# Altium footprint library Mill-Max.PcbLib: 3 footprints
Each footprint in its own frame and in the unit in brackets; x right, y up, seen from the top. Pads: shape width x height; smd on the part's side, far side on the other; paste and mask are expansions set on the pad; w line width, h text height; cw(c..) or ccw(c..) is an arc to the next point about the centre after c.
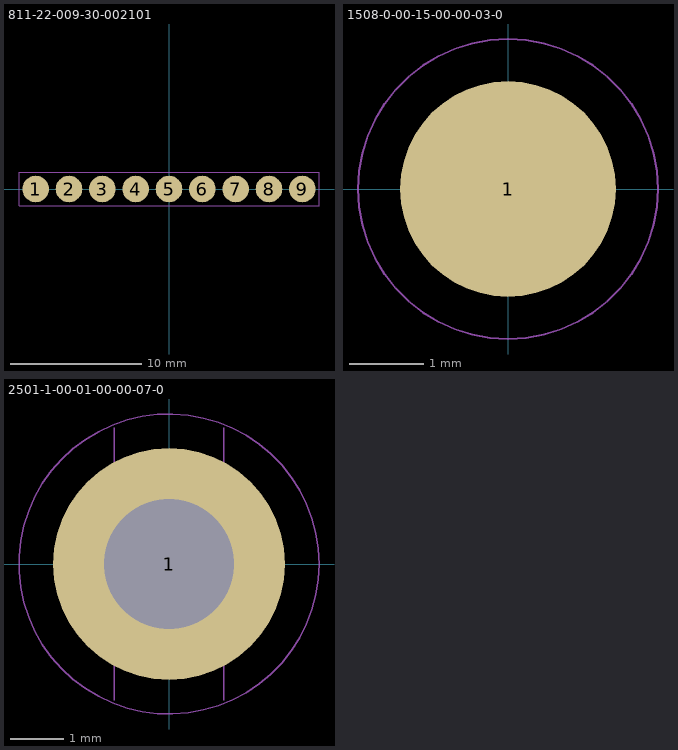
[diagram p0: the footprints below, top view; thin cyan lines are the x and y axes]

## 811-22-009-30-002101 [mil]
pads (9):
  round 80 smd paste-10 mask+1.5: 1(-400,0) 2(-300,0) 3(-200,0) 4(-100,0) 5(0,0) 6(100,0) 7(200,0) 8(300,0) 9(400,0)
Top Component Outline:
  lines w1: -450,-50 -450,50 450,50 450,-50 -450,-50
3D body "mill-max-811-22-009-30-002101.step": height 196, standoff -1, extent -450,-50 450,50

## 1508-0-00-15-00-00-03-0 [mil]
pads (1):
  round 115 smd paste-10 mask+1.5: 1(0,0)
Top Designator:
  text ".Designator" at -127.64,-12.5 h35
Top Courtyard:
  circle w1: c0,0 r80
3D body: height 10, standoff 0, extent -54.78,-54.89 54.78,54.9
3D body: height 180, standoff 55, extent -9.14,-8.98 8.78,8.99
3D body: height 55, standoff 10, extent -49.82,-49.9 49.79,49.9

## 2501-1-00-01-00-00-07-0 [mil]
pads (1):
  round 170 hole 95 mask+2: 1(0,0)
Top Paste:
  lines w35: -58.91,-27.47 ccw(c0,0) -27.47,-58.91 ; -58.91,27.47 cw(c0,0) -27.47,58.91 ; 27.47,-58.91 ccw(c0,0) 58.91,-27.47 ; 27.47,58.91 cw(c0,0) 58.91,27.47
Top Designator:
  text ".Designator" at -127.64,-12.5 h35
Top Courtyard:
  circle w1: c0,0 r110
  lines w1: -40,-100 -40,100 ; 40,-100 40,100
Top Component Outline:
  lines w1: -40,0 ccw(c0,0) 40,0
3D body "MILLMAX-2501-1-00-01-00-00-07-0.step": height 219, standoff -78, extent -62.49,-62.49 62.51,62.51